# Altium footprint library RespiradorLib.PcbLib: 32 footprints (part 1 of 2)
Each footprint in its own frame and in the unit in brackets; x right, y up, seen from the top. Pads: shape width x height; smd on the part's side, far side on the other; paste and mask are expansions set on the pad; w line width, h text height; cw(c..) or ccw(c..) is an arc to the next point about the centre after c.
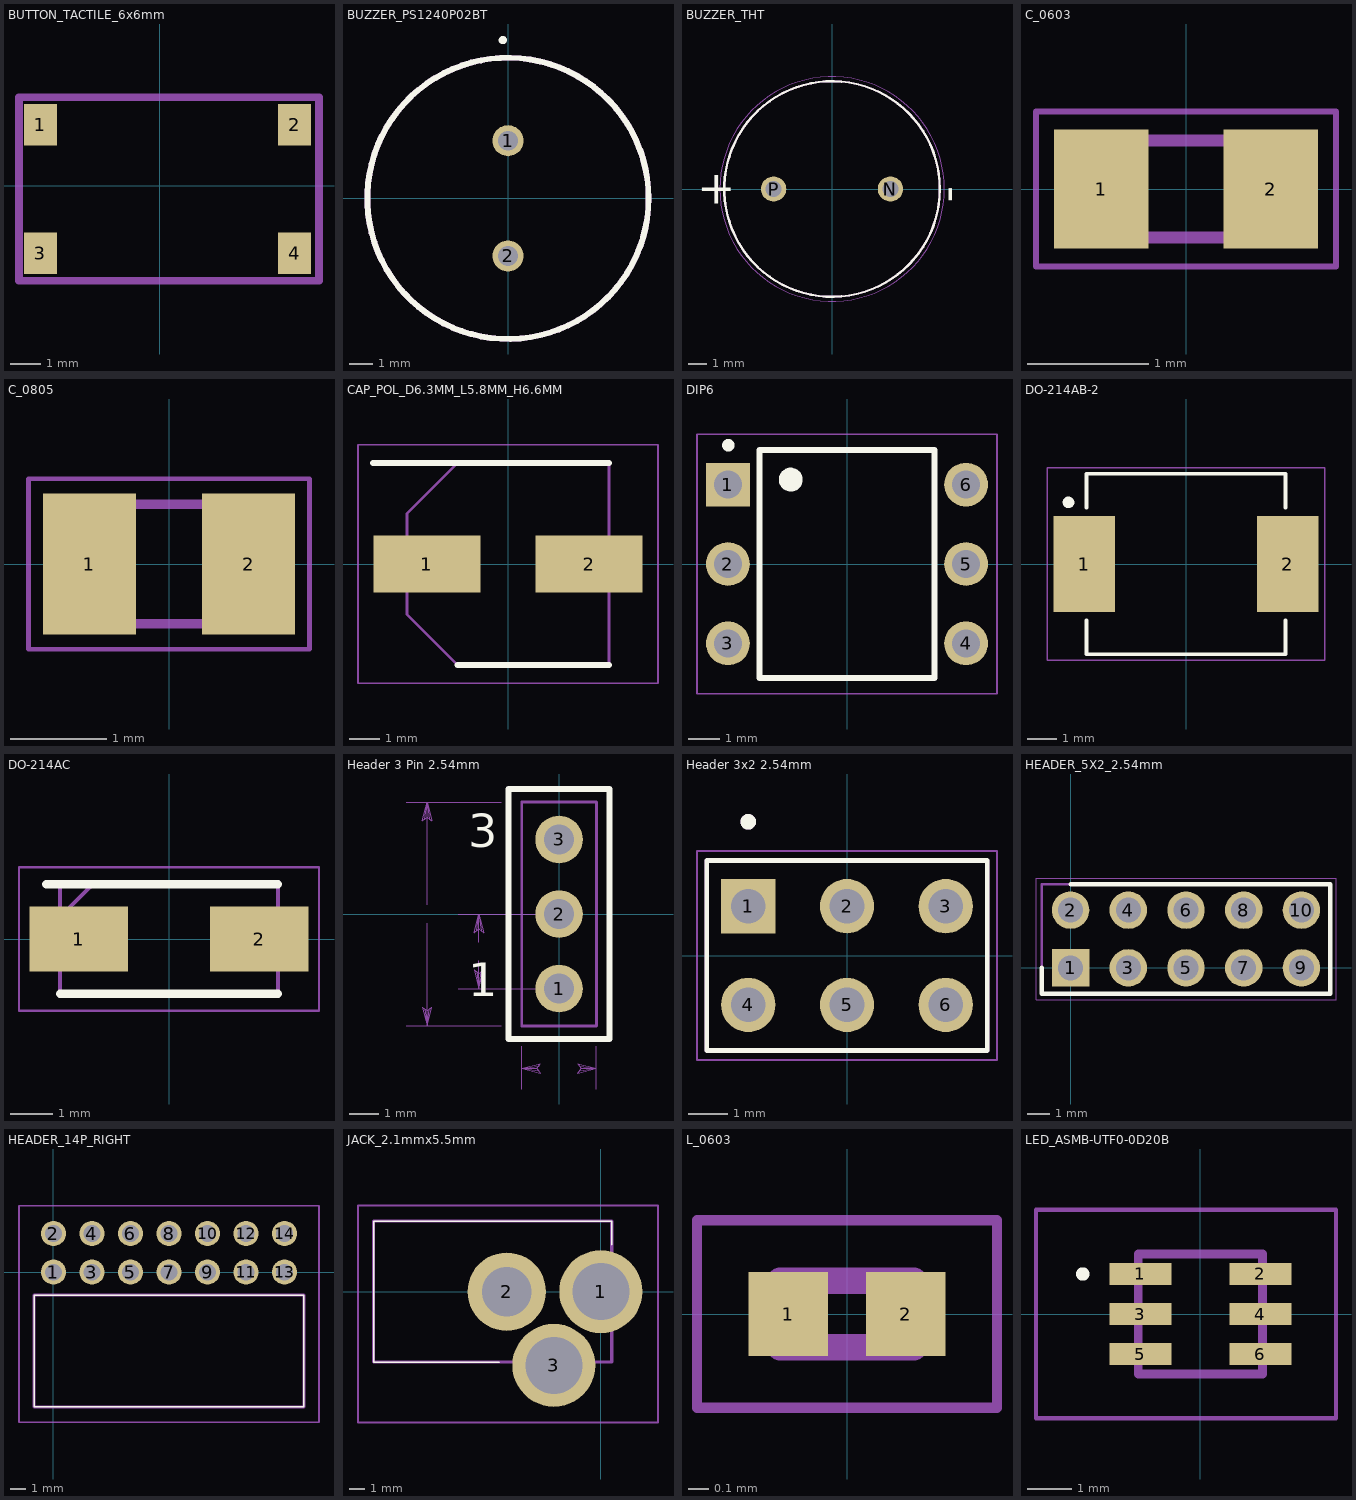
[diagram p0: the footprints below, top view; thin cyan lines are the x and y axes]

## BUTTON_TACTILE_6x6mm [mm]
pads (4):
  rect 1.089x1.351 smd: 1(-3.9,2) 2(4.4,2) 3(-3.9,-2.2) 4(4.4,-2.2)
Mechanical 15:
  lines w0.254: -4.6,-3.1 5.2,-3.1 5.2,2.9 -4.6,2.9 -4.6,-3.1
3D body "User Library-PTS645SL43SMTR92-LFS.STEP": height 4.3, standoff 0, extent -4.2,-3.1 4.8,2.9

## BUZZER_PS1240P02BT [mm]
pads (2):
  round 1.35 hole 0.85: 1(0,2.5) 2(0,-2.5)
Top Overlay:
  circle w0.254: c0,0 r6.1
  circle w0.254: c-0.228,6.861 r0.05
Mechanical 13:
  circle w0.254: c0,0 r6.1

## BUZZER_THT [mm]
pads (2):
  round 1.408 hole 0.9: N(3.25,0) P(-3.25,0)
Top Overlay:
  circle w0.127: c0,0 r6
  text "-" at 7.305,-0.777 h1.88
  text "+" at -7.517,-0.821 h1.88
Mechanical 13:
  circle w0.127: c0,0 r6
  circle w0.127: c0,0 r6
Mechanical 15:
  circle w0.05: c0,0 r6.25
3D body "CUI_DEVICES_CSQG703BP.step": height 3.8, standoff -5.5, extent -6,-6 6,6

## C_0603 [mm]
pads (2):
  rect 0.78x0.98 smd: 1(-0.7,0) 2(0.7,0)
Mechanical 13:
  lines w0.1: -0.8,-0.4 0.8,-0.4 0.8,0.4 -0.8,0.4 -0.8,-0.4
Mechanical 15:
  lines w0.05: -1.24,-0.64 1.24,-0.64 1.24,0.64 -1.24,0.64 -1.24,-0.64
3D body "C0603C220J5GACTU.stp": height 0.87, standoff 0, extent -0.8,-0.4 0.8,0.4

## C_0805 [mm]
pads (2):
  rect 0.97x1.47 smd: 1(-0.83,0) 2(0.83,0)
Mechanical 13:
  lines w0.1: -1,-0.625 -1,0.625 1,0.625 1,-0.625 -1,-0.625
Mechanical 15:
  lines w0.05: -1.465,-0.89 -1.465,0.89 1.465,0.89 1.465,-0.89 -1.465,-0.89
3D body "GRM21BR71H104KA01L.stp": height 1.45, standoff 0, extent -1,-0.625 1,0.625

## CAP_POL_D6.3MM_L5.8MM_H6.6MM [mm]
pads (2):
  rect 3.5x1.85 smd: 1(-2.65,0) 2(2.65,0)
Top Overlay:
  lines w0.2: -4.4,3.3 3.3,3.3 ; -1.65,-3.3 3.3,-3.3
Mechanical 13:
  lines w0.1: -3.3,-1.65 -3.3,1.65 -1.65,3.3 3.3,3.3 3.3,-3.3 -1.65,-3.3 -3.3,-1.65
Mechanical 15:
  lines w0.05: -4.9,-3.9 4.9,-3.9 4.9,3.9 -4.9,3.9 -4.9,-3.9
3D body "UWT1V470MCL1GS.stp": height 6.1, standoff 0, extent -3.7,-3.4 3.7,3.4

## DIP6 [mm]
pads (6):
  rect 1.4x1.4 hole 0.9: 1(-3.81,2.54)
  round 1.4 hole 0.9: 2(-3.81,0) 3(-3.81,-2.54) 4(3.81,-2.54) 5(3.81,0) 6(3.81,2.54)
Top Overlay:
  circle w0.2: c-1.8,2.7 r0.283
  circle w0.2: c-3.8,3.8 r0.1
  lines w0.2: -1.8,2.7 -2,2.6 ; -2,2.6 -1.8,2.9 -1.6,2.7 -1.7,2.5 -2,2.6 ; -2.8,-3.65 2.8,-3.65 2.8,3.65 -2.8,3.65 -2.8,-3.65
Mechanical 15:
  lines w0.05: -4.8,-4.15 4.8,-4.15 4.8,4.15 -4.8,4.15 -4.8,-4.15
3D body "DIP762W50P254L730H410Q6__NA__VISHAY__DIP-6__NA--3DModel-Eagle-1.STEP": height 3.68, standoff -3.98, extent -3.81,-4.3 3.81,4.3

## DO-214AB-2 [mm]
pads (2):
  rect 2.13x3.32 smd: 1(-3.51,0) 2(3.51,0)
Top Overlay:
  circle w0.2: c-4.05,2.125 r0.1
  lines w0.127: -3.427,-1.95 -3.427,-3.11 3.427,-3.11 3.427,-1.95 ; -3.427,1.95 -3.427,3.11 3.427,3.11 3.427,1.95
Mechanical 15:
  lines w0.05: -4.775,-3.31 -4.775,3.31 4.775,3.31 4.775,-3.31 -4.775,-3.31
3D body "TPSMD33CA--3DModel-STEP-56544.STEP": height 2.58, standoff -0.04, extent -3.969,-2.953 3.969,2.953

## DO-214AC [mm]
pads (2):
  rect 2.35x1.55 smd: 1(-2.15,0) 2(2.15,0)
Top Overlay:
  lines w0.2: -2.925,1.302 2.598,1.302 ; -2.598,-1.302 2.598,-1.302
Mechanical 13:
  lines w0.1: -2.598,0.528 -1.822,1.302 ; -2.598,-1.302 2.598,-1.302 2.598,1.302 -2.598,1.302 -2.598,-1.302
Mechanical 15:
  lines w0.05: -3.575,-1.71 3.575,-1.71 3.575,1.71 -3.575,1.71 -3.575,-1.71
3D body "B230A-13-F.stp": height 2.3, standoff 0, extent -2.598,-1.302 2.598,1.302

## Header 3 Pin 2.54mm [mm]
pads (3):
  round 1.62 / inner round 1.524 / far side round 1.62 hole 1.02: 1(0,-2.54) 2(0,0) 3(0,2.54)
Top Overlay:
  lines w0.2: -1.72,-4.26 -1.72,4.26 1.72,4.26 1.72,-4.26 -1.72,-4.26
  text "1" at -3.09,-3.175 h1.97
  text "3" at -3.09,1.905 h1.97
Top Solder:
  circle w0: c0,2.54 r0.861
  circle w0: c0,0 r0.861
  circle w0: c0,-2.54 r0.861
Bottom Solder:
  circle w0: c0,2.54 r0.861
  circle w0: c0,0 r0.861
  circle w0: c0,-2.54 r0.861
Mechanical 3:
  lines w0.1: -1.27,-3.81 -1.27,-3.556 -1.27,3.81 -1.016,3.81 1.27,3.81 1.27,-3.81 -1.016,-3.81 -1.27,-3.81 ; -0.318,-2.858 -0.318,-2.222 0.318,-2.222 0.318,-2.858 -0.318,-2.858 ; -0.318,-0.318 -0.318,0.318 0.318,0.318 0.318,-0.318 -0.318,-0.318 ; -0.318,2.222 -0.318,2.858 0.318,2.858 0.318,2.222 -0.318,2.222
  text "3" at -3.09,1.905 h1.97
  text "1" at -3.09,-3.175 h1.97
Mechanical 30:
  lines w0: -5.197,-3.81 -1.971,-3.81 ; -5.197,3.81 -1.971,3.81 ; -4.496,-0.318 -4.496,-3.81 ; -4.496,0.318 -4.496,3.81 ; -3.432,-2.54 -0.701,-2.54 ; -3.432,0 -0.701,0 ; -2.73,-1.588 -2.73,-2.54 ; -2.73,-0.952 -2.73,0 ; -1.27,-5.959 -1.27,-4.511 ; -0.851,-5.258 -1.27,-5.258 ; 0.851,-5.258 1.27,-5.258 ; 1.27,-5.959 1.27,-4.511 ; -4.655,-3.175 -4.575,-3.238 -4.496,-3.81 ; -4.655,-3.175 -4.496,-3.302 ; -4.655,-3.175 -4.496,-3.81 ; -4.496,-3.81 -4.496,-3.302 ; -4.496,-3.81 -4.416,-3.238 -4.496,-3.302 ; -4.496,-3.81 -4.337,-3.175 -4.496,-3.302 ; -4.496,3.302 -4.496,3.81 ; -4.496,3.302 -4.575,3.238 -4.496,3.81 ; -4.496,3.302 -4.337,3.175 ; -4.496,3.302 -4.655,3.175 -4.496,3.81 ; -4.496,3.81 -4.416,3.238 -4.337,3.175 ; -4.496,3.81 -4.337,3.175 ; -2.889,-1.905 -2.81,-1.968 -2.73,-2.54 ; -2.889,-1.905 -2.73,-2.032 ; -2.889,-1.905 -2.73,-2.54 ; -2.73,-2.54 -2.73,-2.032 ; -2.73,-2.54 -2.651,-1.968 -2.73,-2.032 ; -2.73,-2.54 -2.572,-1.905 -2.73,-2.032 ; -2.73,-0.508 -2.73,0 ; -2.73,-0.508 -2.81,-0.572 -2.73,0 ; -2.73,-0.508 -2.572,-0.635 ; -2.73,-0.508 -2.889,-0.635 -2.73,0 ; -2.73,0 -2.651,-0.572 -2.572,-0.635 ; -2.73,0 -2.572,-0.635 ; -1.27,-5.258 -0.698,-5.178 -0.635,-5.099 ; -1.27,-5.258 -0.762,-5.258 ; -1.27,-5.258 -0.698,-5.337 -0.762,-5.258 ; -1.27,-5.258 -0.635,-5.417 -0.762,-5.258 ; -1.27,-5.258 -0.635,-5.099 ; -0.762,-5.258 -0.635,-5.099 ; 0.635,-5.417 0.698,-5.337 1.27,-5.258 ; 0.635,-5.417 0.762,-5.258 ; 0.635,-5.417 1.27,-5.258 ; 0.762,-5.258 1.27,-5.258 ; 0.762,-5.258 0.698,-5.178 1.27,-5.258 ; 0.762,-5.258 0.635,-5.099 1.27,-5.258
  text "2.540" at -0.66,-5.385 h0.39
  text "7.620" at -5.156,-0.127 h0.39
  text "2.540" at -3.391,-1.397 h0.39
Mechanical 32:
  lines w0.1: -1.72,-4.26 1.72,-4.26 1.72,4.26 -1.72,4.26 -1.72,-4.26
3D body "TSW-101-07-F-T.stp": height 8.38, standoff -2.54, extent -1.27,-3.81 1.27,3.81

## Header 3x2 2.54mm [mil]
pads (6):
  rect 55x55 hole 35: 1(-100,50)
  round 55 hole 35: 2(0,50) 3(100,50) 4(-100,-50) 5(0,-50) 6(100,-50)
Top Overlay:
  circle w7.87: c-100,135.35 r3.94
  lines w5: -142.01,-95.98 -142.01,95.98 142.01,95.98 142.01,-95.98 -142.01,-95.98
Mechanical 13:
  circle w7.87: c-100,135.35 r3.94
  circle w7.87: c-100,135.35 r3.94
  lines w5: -142.01,-95.98 -142.01,95.98 ; -142.01,-95.98 142.01,-95.98 ; -142.01,-95.98 -142.01,95.98 ; -142.01,-95.98 142.01,-95.98 ; -142.01,95.98 142.01,95.98 ; -142.01,95.98 142.01,95.98 ; 142.01,-95.98 142.01,95.98 ; 142.01,-95.98 142.01,95.98
Mechanical 15:
  lines w1.97: -151.85,-105.83 -151.85,105.83 151.85,105.83 151.85,-105.83 -151.85,-105.83
3D body "User Library-2x3 TH Pitch 2_54mm.STEP": height 362.2, standoff -137.8, extent -150,-99.99 150,100.01

## HEADER_5X2_2.54mm [mm]
pads (10):
  rect 1.65x1.65 hole 1.1: 1(0,0)
  round 1.65 hole 1.1: 2(0,2.54) 3(2.54,0) 4(2.54,2.54) 5(5.08,0) 6(5.08,2.54) 7(7.62,0) 8(7.62,2.54) 9(10.16,0) 10(10.16,2.54)
Top Overlay:
  lines w0.2: -1.27,0 -1.27,-1.145 11.43,-1.145 11.43,3.685 0,3.685
Mechanical 13:
  lines w0.1: -1.27,-1.145 11.43,-1.145 11.43,3.685 -1.27,3.685 -1.27,-1.145
Mechanical 15:
  lines w0.05: -1.52,-1.395 11.68,-1.395 11.68,3.935 -1.52,3.935 -1.52,-1.395
3D body "67997-410HLF.stp": height 8.58, standoff -3.25, extent -1.27,-1.145 11.43,3.685

## HEADER_14P_RIGHT [mm]
pads (14):
  round 1.65 hole 1.1: 1(0,0) 2(0,2.54) 3(2.54,0) 4(2.54,2.54) 5(5.08,0) 6(5.08,2.54) 7(7.62,0) 8(7.62,2.54) 9(10.16,0) 10(10.16,2.54) 11(12.7,0) 12(12.7,2.54) 13(15.24,0) 14(15.24,2.54)
Top Overlay:
  lines w0.1: -1.27,-8.89 16.51,-8.89 16.51,-1.52 -1.27,-1.52 -1.27,-8.89
Mechanical 13:
  lines w0.2: -1.27,-8.89 16.51,-8.89 16.51,-1.52 -1.27,-1.52 -1.27,-8.89
Mechanical 15:
  lines w0.1: -2.27,-9.89 17.51,-9.89 17.51,4.365 -2.27,4.365 -2.27,-9.89
3D body "10129382-914002BLF.stp": height 5.38, standoff -5, extent -1.29,-8.8 16.49,3.079

## JACK_2.1mmx5.5mm [mm]
pads (3):
  round 5.3 hole 3.64: 1(0,0) 3(-3,-4.7)
  round 5 hole 3.162: 2(-6,0)
Top Overlay:
  lines w0.1: -6.5,-4.5 -14.5,-4.5 -14.5,4.5 0.7,4.5 0.7,3
Mechanical 13:
  lines w0.2: -14.5,-4.5 -14.5,4.5 0.7,4.5 0.7,-4.5 -14.5,-4.5
Mechanical 15:
  lines w0.1: -15.5,-8.35 -15.5,5.5 3.65,5.5 3.65,-8.35 -15.5,-8.35
3D body "CON-SOCJ-2155.stp": height 11.1, standoff -5, extent -14.5,-6.42 1.72,4.5

## L_0603 [mm]
pads (2):
  rect 0.38x0.4 smd: 1(-0.281,0) 2(0.281,0)
Mechanical 13:
  lines w0.127: -0.32,-0.16 0.32,-0.16 ; -0.32,-0.16 -0.32,0.16 ; -0.32,-0.16 0.32,-0.16 ; -0.32,-0.16 -0.32,0.16 ; -0.32,0.16 0.32,0.16 ; -0.32,0.16 0.32,0.16 ; 0.32,-0.16 0.32,0.16 ; 0.32,-0.16 0.32,0.16
Mechanical 15:
  lines w0.05: -0.718,-0.448 0.718,-0.448 0.718,0.448 -0.718,0.448 -0.718,-0.448
3D body "TMK063CG060FPGF--3DModel-STEP-46669.STEP": height 0.33, standoff 0, extent -0.3,-0.15 0.3,0.15

## LED_ASMB-UTF0-0D20B [mm]
pads (6):
  rect 1.4x0.5 smd: 1(-1.35,0.9) 2(1.35,0.9) 3(-1.35,0) 4(1.35,0) 5(-1.35,-0.9) 6(1.35,-0.9)
Top Overlay:
  lines w0.2: -2.7,0.9 ccw(c-2.65,0.9) -2.6,0.9 ; -2.7,0.9 cw(c-2.65,0.9) -2.6,0.9 ; -2.7,0.9 ccw(c-2.65,0.9) -2.6,0.9
Mechanical 13:
  lines w0.2: -1.4,-1.35 1.4,-1.35 1.4,1.35 -1.4,1.35 -1.4,-1.35
Mechanical 15:
  lines w0.1: -3.7,-2.35 3.05,-2.35 3.05,2.35 -3.7,2.35 -3.7,-2.35
3D body "ASMB-UTF0-0D20B.stp": height 2.7, standoff 0, extent -1.4,-1.35 1.4,1.35